# Altium integrated library WE-PD2 (rev22d).IntLib: 115 symbols (part 1 of 3)
Pins are listed as number, name and electrical type; pins without a type are passive.

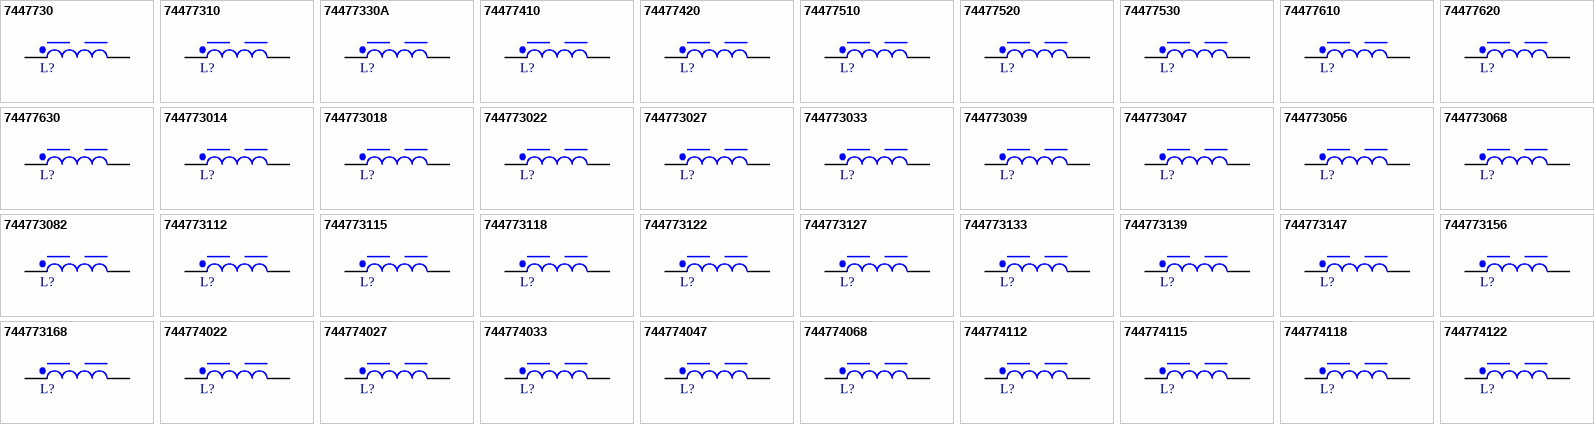
[diagram p0: symbols 7447730 to 744774122]

## 7447730
designator L?, comment 1µH, 4A  (value not drawn)
WE-PD2 SMT Power Inductor, size 4532, 1µH, 4A, 0.049Ω; Manufacturer Part Number: 7447730; Manufacturer: Wurth Elektronik; Case/Size Code: 4532; DC Resistance: 0.014Ω; Saturation Current: 5.72A; Self Resonant Frequency: 110MHz; Category: Unshielded Power Inductors; Match Code: WE-PD2; ComponentLink1Description: Website Link; ComponentLink1URL: https://www.we-online.com/redexpert/article/7447730?ad; ComponentLink2Description: Datasheet Link; ComponentLink2URL: https://www.we-online.com/redexpert/spec/7447730?ad; Mount: Surface Mount; Operating Temperature Max: 125°C; Operating Temperature Min: -40°C; Packaging: Tape and Reel; Length: 4.5mm; Width: 4mm; Height: 3.2mm; DC Resistance Max: 0.049Ω; Inductance: 1µH; Rated Current: 4A
footprint WE-PD2_4532
simulation model 4532_7447730_1u
pins: 1, 2

## 74477310
designator L?, comment 10µH, 1.45A  (value not drawn)
WE-PD2 SMT Power Inductor, size 4532, 10µH, 1.45A, 0.182Ω; Manufacturer Part Number: 74477310; Manufacturer: Wurth Elektronik; Case/Size Code: 4532; DC Resistance: 0.118Ω; Saturation Current: 1.74A; Self Resonant Frequency: 37MHz; Category: Unshielded Power Inductors; Match Code: WE-PD2; ComponentLink1Description: Website Link; ComponentLink1URL: https://www.we-online.com/redexpert/article/74477310?ad; ComponentLink2Description: Datasheet Link; ComponentLink2URL: https://www.we-online.com/redexpert/spec/74477310?ad; Mount: Surface Mount; Operating Temperature Max: 125°C; Operating Temperature Min: -40°C; Packaging: Tape and Reel; Length: 4.5mm; Width: 4mm; Height: 3.2mm; DC Resistance Max: 0.182Ω; Inductance: 10µH; Rated Current: 1.45A
footprint WE-PD2_4532
simulation model 4532_74477310_10u
pins: 1, 2

## 74477330A
designator L?, comment 1000µH, 0.12A  (value not drawn)
WE-PD2 SMT Power Inductor, size 4532, 1000µH, 0.12A, 15Ω; Manufacturer Part Number: 74477330A; Manufacturer: Wurth Elektronik; Case/Size Code: 4532; DC Resistance: 12.5Ω; Saturation Current: 0.18A; Self Resonant Frequency: 3.5MHz; Category: Unshielded Power Inductors; Match Code: WE-PD2; ComponentLink1Description: Website Link; ComponentLink1URL: https://www.we-online.com/redexpert/article/74477330A?ad; ComponentLink2Description: Datasheet Link; ComponentLink2URL: https://www.we-online.com/redexpert/spec/74477330A?ad; Mount: Surface Mount; Operating Temperature Max: 125°C; Operating Temperature Min: -40°C; Packaging: Tape and Reel; Length: 4.5mm; Width: 4mm; Height: 3.2mm; DC Resistance Max: 15Ω; Inductance: 1000µH; Rated Current: 0.12A
footprint WE-PD2_4532
simulation model 4532_74477330A_1000u
pins: 1, 2

## 74477410
designator L?, comment 10µH, 2.2A  (value not drawn)
WE-PD2 SMT Power Inductor, size 5848, 10µH, 2.2A, 0.1Ω; Manufacturer Part Number: 74477410; Manufacturer: Wurth Elektronik; Case/Size Code: 5848; DC Resistance: 0.078Ω; Saturation Current: 2.5A; Self Resonant Frequency: 26MHz; Category: Unshielded Power Inductors; Match Code: WE-PD2; ComponentLink1Description: Website Link; ComponentLink1URL: https://www.we-online.com/redexpert/article/74477410?ad; ComponentLink2Description: Datasheet Link; ComponentLink2URL: https://www.we-online.com/redexpert/spec/74477410?ad; Mount: Surface Mount; Operating Temperature Max: 125°C; Operating Temperature Min: -40°C; Packaging: Tape and Reel; Length: 5.8mm; Width: 5.2mm; Height: 4.5mm; DC Resistance Max: 0.1Ω; Inductance: 10µH; Rated Current: 2.2A
footprint WE-PD2_5848
simulation model 5848_74477410_10u
pins: 1, 2

## 74477420
designator L?, comment 100µH, 0.57A  (value not drawn)
WE-PD2 SMT Power Inductor, size 5848, 100µH, 0.57A, 0.65Ω; Manufacturer Part Number: 74477420; Manufacturer: Wurth Elektronik; Case/Size Code: 5848; DC Resistance: 0.51Ω; Saturation Current: 0.68A; Self Resonant Frequency: 7.5MHz; Category: Unshielded Power Inductors; Match Code: WE-PD2; ComponentLink1Description: Website Link; ComponentLink1URL: https://www.we-online.com/redexpert/article/74477420?ad; ComponentLink2Description: Datasheet Link; ComponentLink2URL: https://www.we-online.com/redexpert/spec/74477420?ad; Mount: Surface Mount; Operating Temperature Max: 125°C; Operating Temperature Min: -40°C; Packaging: Tape and Reel; Length: 5.8mm; Width: 5.2mm; Height: 4.5mm; DC Resistance Max: 0.65Ω; Inductance: 100µH; Rated Current: 0.57A
footprint WE-PD2_5848
simulation model 5848_74477420_100u
pins: 1, 2

## 74477510
designator L?, comment 10µH, 2.3A  (value not drawn)
WE-PD2 SMT Power Inductor, size 7850, 10µH, 2.3A, 0.07Ω; Manufacturer Part Number: 74477510; Manufacturer: Wurth Elektronik; Case/Size Code: 7850; DC Resistance: 0.044Ω; Saturation Current: 2.95A; Self Resonant Frequency: 28MHz; Category: Unshielded Power Inductors; Match Code: WE-PD2; ComponentLink1Description: Website Link; ComponentLink1URL: https://www.we-online.com/redexpert/article/74477510?ad; ComponentLink2Description: Datasheet Link; ComponentLink2URL: https://www.we-online.com/redexpert/spec/74477510?ad; Mount: Surface Mount; Operating Temperature Max: 125°C; Operating Temperature Min: -40°C; Packaging: Tape and Reel; Length: 7.8mm; Width: 7mm; Height: 4.95mm; DC Resistance Max: 0.07Ω; Inductance: 10µH; Rated Current: 2.3A
footprint WE-PD2_7850
simulation model 7850_74477510_10u
pins: 1, 2

## 74477520
designator L?, comment 100µH, 0.77A  (value not drawn)
WE-PD2 SMT Power Inductor, size 7850, 100µH, 0.77A, 0.43Ω; Manufacturer Part Number: 74477520; Manufacturer: Wurth Elektronik; Case/Size Code: 7850; DC Resistance: 0.208Ω; Saturation Current: 0.86A; Self Resonant Frequency: 8MHz; Category: Unshielded Power Inductors; Match Code: WE-PD2; ComponentLink1Description: Website Link; ComponentLink1URL: https://www.we-online.com/redexpert/article/74477520?ad; ComponentLink2Description: Datasheet Link; ComponentLink2URL: https://www.we-online.com/redexpert/spec/74477520?ad; Mount: Surface Mount; Operating Temperature Max: 125°C; Operating Temperature Min: -40°C; Packaging: Tape and Reel; Length: 7.8mm; Width: 7mm; Height: 4.95mm; DC Resistance Max: 0.43Ω; Inductance: 100µH; Rated Current: 0.77A
footprint WE-PD2_7850
simulation model 7850_74477520_100u
pins: 1, 2

## 74477530
designator L?, comment 1000µH, 0.3A  (value not drawn)
WE-PD2 SMT Power Inductor, size 7850, 1000µH, 0.3A, 3.3Ω; Manufacturer Part Number: 74477530; Manufacturer: Wurth Elektronik; Case/Size Code: 7850; DC Resistance: 2.78Ω; Self Resonant Frequency: 2.4MHz; Category: Unshielded Power Inductors; Match Code: WE-PD2; ComponentLink1Description: Website Link; ComponentLink1URL: https://www.we-online.com/redexpert/article/74477530?ad; ComponentLink2Description: Datasheet Link; ComponentLink2URL: https://www.we-online.com/redexpert/spec/74477530?ad; Mount: Surface Mount; Operating Temperature Max: 125°C; Operating Temperature Min: -40°C; Packaging: Tape and Reel; Length: 7.8mm; Width: 7mm; Height: 4.95mm; DC Resistance Max: 3.3Ω; Inductance: 1000µH; Rated Current: 0.3A; Saturation Current: 0.3A
footprint WE-PD2_7850
simulation model 7850_74477530_1m
pins: 1, 2

## 74477610
designator L?, comment 10µH, 2.98A  (value not drawn)
WE-PD2 SMT Power Inductor, size 1054, 10µH, 2.98A, 0.06Ω; Manufacturer Part Number: 74477610; Manufacturer: Wurth Elektronik; Case/Size Code: 1054; DC Resistance: 0.028Ω; Saturation Current: 3.24A; Self Resonant Frequency: 24MHz; Category: Unshielded Power Inductors; Match Code: WE-PD2; ComponentLink1Description: Website Link; ComponentLink1URL: https://www.we-online.com/redexpert/article/74477610?ad; ComponentLink2Description: Datasheet Link; ComponentLink2URL: https://www.we-online.com/redexpert/spec/74477610?ad; Mount: Surface Mount; Operating Temperature Max: 125°C; Operating Temperature Min: -40°C; Packaging: Tape and Reel; Length: 10mm; Width: 9mm; Height: 5.4mm; DC Resistance Max: 0.06Ω; Inductance: 10µH; Rated Current: 2.98A
footprint WE-PD2_1054
simulation model 1054_74477610_10u
pins: 1, 2

## 74477620
designator L?, comment 100µH, 1.02A  (value not drawn)
WE-PD2 SMT Power Inductor, size 1054, 100µH, 1.02A, 0.35Ω; Manufacturer Part Number: 74477620; Manufacturer: Wurth Elektronik; Case/Size Code: 1054; DC Resistance: 0.2Ω; Saturation Current: 1.1A; Self Resonant Frequency: 7.5MHz; Category: Unshielded Power Inductors; Match Code: WE-PD2; ComponentLink1Description: Website Link; ComponentLink1URL: https://www.we-online.com/redexpert/article/74477620?ad; ComponentLink2Description: Datasheet Link; ComponentLink2URL: https://www.we-online.com/redexpert/spec/74477620?ad; Mount: Surface Mount; Operating Temperature Max: 125°C; Operating Temperature Min: -40°C; Packaging: Tape and Reel; Length: 10mm; Width: 9mm; Height: 5.4mm; DC Resistance Max: 0.35Ω; Inductance: 100µH; Rated Current: 1.02A
footprint WE-PD2_1054
simulation model 1054_74477620_100u
pins: 1, 2

## 74477630
designator L?, comment 1000µH, 0.32A  (value not drawn)
WE-PD2 SMT Power Inductor, size 1054, 1000µH, 0.32A, 2.6Ω; Manufacturer Part Number: 74477630; Manufacturer: Wurth Elektronik; Case/Size Code: 1054; DC Resistance: 2.2Ω; Saturation Current: 0.38A; Self Resonant Frequency: 2.3MHz; Category: Unshielded Power Inductors; Match Code: WE-PD2; ComponentLink1Description: Website Link; ComponentLink1URL: https://www.we-online.com/redexpert/article/74477630?ad; ComponentLink2Description: Datasheet Link; ComponentLink2URL: https://www.we-online.com/redexpert/spec/74477630?ad; Mount: Surface Mount; Operating Temperature Max: 125°C; Operating Temperature Min: -40°C; Packaging: Tape and Reel; Length: 10mm; Width: 9mm; Height: 5.4mm; DC Resistance Max: 2.6Ω; Inductance: 1000µH; Rated Current: 0.32A
footprint WE-PD2_1054
simulation model 1054_74477630_1m
pins: 1, 2

## 744773014
designator L?, comment 1.4µH, 3.4A  (value not drawn)
WE-PD2 SMT Power Inductor, size 4532, 1.4µH, 3.4A, 0.056Ω; Manufacturer Part Number: 744773014; Manufacturer: Wurth Elektronik; Case/Size Code: 4532; DC Resistance: 0.022Ω; Saturation Current: 5.04A; Self Resonant Frequency: 103MHz; Category: Unshielded Power Inductors; Match Code: WE-PD2; ComponentLink1Description: Website Link; ComponentLink1URL: https://www.we-online.com/redexpert/article/744773014?ad; ComponentLink2Description: Datasheet Link; ComponentLink2URL: https://www.we-online.com/redexpert/spec/744773014?ad; Mount: Surface Mount; Operating Temperature Max: 125°C; Operating Temperature Min: -40°C; Packaging: Tape and Reel; Length: 4.5mm; Width: 4mm; Height: 3.2mm; DC Resistance Max: 0.056Ω; Inductance: 1.4µH; Rated Current: 3.4A
footprint WE-PD2_4532
simulation model 4532_744773014_1.4u
pins: 1, 2

## 744773018
designator L?, comment 1.8µH, 2.7A  (value not drawn)
WE-PD2 SMT Power Inductor, size 4532, 1.8µH, 2.7A, 0.064Ω; Manufacturer Part Number: 744773018; Manufacturer: Wurth Elektronik; Case/Size Code: 4532; DC Resistance: 0.028Ω; Saturation Current: 3.6A; Self Resonant Frequency: 95MHz; Category: Unshielded Power Inductors; Match Code: WE-PD2; ComponentLink1Description: Website Link; ComponentLink1URL: https://www.we-online.com/redexpert/article/744773018?ad; ComponentLink2Description: Datasheet Link; ComponentLink2URL: https://www.we-online.com/redexpert/spec/744773018?ad; Mount: Surface Mount; Operating Temperature Max: 125°C; Operating Temperature Min: -40°C; Packaging: Tape and Reel; Length: 4.5mm; Width: 4mm; Height: 3.2mm; DC Resistance Max: 0.064Ω; Inductance: 1.8µH; Rated Current: 2.7A
footprint WE-PD2_4532
simulation model 4532_744773018_1.8u
pins: 1, 2

## 744773022
designator L?, comment 2.2µH, 2.5A  (value not drawn)
WE-PD2 SMT Power Inductor, size 4532, 2.2µH, 2.5A, 0.071Ω; Manufacturer Part Number: 744773022; Manufacturer: Wurth Elektronik; Case/Size Code: 4532; DC Resistance: 0.034Ω; Saturation Current: 3.38A; Self Resonant Frequency: 85MHz; Category: Unshielded Power Inductors; Match Code: WE-PD2; ComponentLink1Description: Website Link; ComponentLink1URL: https://www.we-online.com/redexpert/article/744773022?ad; ComponentLink2Description: Datasheet Link; ComponentLink2URL: https://www.we-online.com/redexpert/spec/744773022?ad; Mount: Surface Mount; Operating Temperature Max: 125°C; Operating Temperature Min: -40°C; Packaging: Tape and Reel; Length: 4.5mm; Width: 4mm; Height: 3.2mm; DC Resistance Max: 0.071Ω; Inductance: 2.2µH; Rated Current: 2.5A
footprint WE-PD2_4532
simulation model 4532_744773022_2.2u
pins: 1, 2

## 744773027
designator L?, comment 2.7µH, 2.25A  (value not drawn)
WE-PD2 SMT Power Inductor, size 4532, 2.7µH, 2.25A, 0.079Ω; Manufacturer Part Number: 744773027; Manufacturer: Wurth Elektronik; Case/Size Code: 4532; DC Resistance: 0.039Ω; Saturation Current: 2.97A; Self Resonant Frequency: 72MHz; Category: Unshielded Power Inductors; Match Code: WE-PD2; ComponentLink1Description: Website Link; ComponentLink1URL: https://www.we-online.com/redexpert/article/744773027?ad; ComponentLink2Description: Datasheet Link; ComponentLink2URL: https://www.we-online.com/redexpert/spec/744773027?ad; Mount: Surface Mount; Operating Temperature Max: 125°C; Operating Temperature Min: -40°C; Packaging: Tape and Reel; Length: 4.5mm; Width: 4mm; Height: 3.2mm; DC Resistance Max: 0.079Ω; Inductance: 2.7µH; Rated Current: 2.25A
footprint WE-PD2_4532
simulation model 4532_744773027_2.7u
pins: 1, 2

## 744773033
designator L?, comment 3.3µH, 2A  (value not drawn)
WE-PD2 SMT Power Inductor, size 4532, 3.3µH, 2A, 0.086Ω; Manufacturer Part Number: 744773033; Manufacturer: Wurth Elektronik; Case/Size Code: 4532; DC Resistance: 0.041Ω; Saturation Current: 2.88A; Self Resonant Frequency: 65MHz; Category: Unshielded Power Inductors; Match Code: WE-PD2; ComponentLink1Description: Website Link; ComponentLink1URL: https://www.we-online.com/redexpert/article/744773033?ad; ComponentLink2Description: Datasheet Link; ComponentLink2URL: https://www.we-online.com/redexpert/spec/744773033?ad; Mount: Surface Mount; Operating Temperature Max: 125°C; Operating Temperature Min: -40°C; Packaging: Tape and Reel; Length: 4.5mm; Width: 4mm; Height: 3.2mm; DC Resistance Max: 0.086Ω; Inductance: 3.3µH; Rated Current: 2A
footprint WE-PD2_4532
simulation model 4532_744773033_3.3u
pins: 1, 2

## 744773039
designator L?, comment 3.9µH, 1.88A  (value not drawn)
WE-PD2 SMT Power Inductor, size 4532, 3.9µH, 1.88A, 0.094Ω; Manufacturer Part Number: 744773039; Manufacturer: Wurth Elektronik; Case/Size Code: 4532; DC Resistance: 0.054Ω; Saturation Current: 2.57A; Self Resonant Frequency: 61MHz; Category: Unshielded Power Inductors; Match Code: WE-PD2; ComponentLink1Description: Website Link; ComponentLink1URL: https://www.we-online.com/redexpert/article/744773039?ad; ComponentLink2Description: Datasheet Link; ComponentLink2URL: https://www.we-online.com/redexpert/spec/744773039?ad; Mount: Surface Mount; Operating Temperature Max: 125°C; Operating Temperature Min: -40°C; Packaging: Tape and Reel; Length: 4.5mm; Width: 4mm; Height: 3.2mm; DC Resistance Max: 0.094Ω; Inductance: 3.9µH; Rated Current: 1.88A
footprint WE-PD2_4532
simulation model 4532_744773039_3.9u
pins: 1, 2

## 744773047
designator L?, comment 4.7µH, 1.82A  (value not drawn)
WE-PD2 SMT Power Inductor, size 4532, 4.7µH, 1.82A, 0.11Ω; Manufacturer Part Number: 744773047; Manufacturer: Wurth Elektronik; Case/Size Code: 4532; DC Resistance: 0.059Ω; Saturation Current: 2.46A; Self Resonant Frequency: 50MHz; Category: Unshielded Power Inductors; Match Code: WE-PD2; ComponentLink1Description: Website Link; ComponentLink1URL: https://www.we-online.com/redexpert/article/744773047?ad; ComponentLink2Description: Datasheet Link; ComponentLink2URL: https://www.we-online.com/redexpert/spec/744773047?ad; Mount: Surface Mount; Operating Temperature Max: 125°C; Operating Temperature Min: -40°C; Packaging: Tape and Reel; Length: 4.5mm; Width: 4mm; Height: 3.2mm; DC Resistance Max: 0.11Ω; Inductance: 4.7µH; Rated Current: 1.82A
footprint WE-PD2_4532
simulation model 4532_744773047_4.7u
pins: 1, 2

## 744773056
designator L?, comment 5.6µH, 1.58A  (value not drawn)
WE-PD2 SMT Power Inductor, size 4532, 5.6µH, 1.58A, 0.126Ω; Manufacturer Part Number: 744773056; Manufacturer: Wurth Elektronik; Case/Size Code: 4532; DC Resistance: 0.069Ω; Saturation Current: 2.43A; Self Resonant Frequency: 48MHz; Category: Unshielded Power Inductors; Match Code: WE-PD2; ComponentLink1Description: Website Link; ComponentLink1URL: https://www.we-online.com/redexpert/article/744773056?ad; ComponentLink2Description: Datasheet Link; ComponentLink2URL: https://www.we-online.com/redexpert/spec/744773056?ad; Mount: Surface Mount; Operating Temperature Max: 125°C; Operating Temperature Min: -40°C; Packaging: Tape and Reel; Length: 4.5mm; Width: 4mm; Height: 3.2mm; DC Resistance Max: 0.126Ω; Inductance: 5.6µH; Rated Current: 1.58A
footprint WE-PD2_4532
simulation model 4532_744773056_5.6u
pins: 1, 2

## 744773068
designator L?, comment 6.8µH, 1.54A  (value not drawn)
WE-PD2 SMT Power Inductor, size 4532, 6.8µH, 1.54A, 0.131Ω; Manufacturer Part Number: 744773068; Manufacturer: Wurth Elektronik; Case/Size Code: 4532; DC Resistance: 0.076Ω; Saturation Current: 2.1A; Self Resonant Frequency: 41MHz; Category: Unshielded Power Inductors; Match Code: WE-PD2; ComponentLink1Description: Website Link; ComponentLink1URL: https://www.we-online.com/redexpert/article/744773068?ad; ComponentLink2Description: Datasheet Link; ComponentLink2URL: https://www.we-online.com/redexpert/spec/744773068?ad; Mount: Surface Mount; Operating Temperature Max: 125°C; Operating Temperature Min: -40°C; Packaging: Tape and Reel; Length: 4.5mm; Width: 4mm; Height: 3.2mm; DC Resistance Max: 0.131Ω; Inductance: 6.8µH; Rated Current: 1.54A
footprint WE-PD2_4532
simulation model 4532_744773068_6.8u
pins: 1, 2

## 744773082
designator L?, comment 8.2µH, 1.5A  (value not drawn)
WE-PD2 SMT Power Inductor, size 4532, 8.2µH, 1.5A, 0.146Ω; Manufacturer Part Number: 744773082; Manufacturer: Wurth Elektronik; Case/Size Code: 4532; DC Resistance: 0.116Ω; Saturation Current: 1.8A; Self Resonant Frequency: 38MHz; Category: Unshielded Power Inductors; Match Code: WE-PD2; ComponentLink1Description: Website Link; ComponentLink1URL: https://www.we-online.com/redexpert/article/744773082?ad; ComponentLink2Description: Datasheet Link; ComponentLink2URL: https://www.we-online.com/redexpert/spec/744773082?ad; Mount: Surface Mount; Operating Temperature Max: 125°C; Operating Temperature Min: -40°C; Packaging: Tape and Reel; Length: 4.5mm; Width: 4mm; Height: 3.2mm; DC Resistance Max: 0.146Ω; Inductance: 8.2µH; Rated Current: 1.5A
footprint WE-PD2_4532
simulation model 4532_744773082_8.2u
pins: 1, 2

## 744773112
designator L?, comment 12µH, 1.28A  (value not drawn)
WE-PD2 SMT Power Inductor, size 4532, 12µH, 1.28A, 0.21Ω; Manufacturer Part Number: 744773112; Manufacturer: Wurth Elektronik; Case/Size Code: 4532; DC Resistance: 0.156Ω; Saturation Current: 1.62A; Self Resonant Frequency: 32MHz; Category: Unshielded Power Inductors; Match Code: WE-PD2; ComponentLink1Description: Website Link; ComponentLink1URL: https://www.we-online.com/redexpert/article/744773112?ad; ComponentLink2Description: Datasheet Link; ComponentLink2URL: https://www.we-online.com/redexpert/spec/744773112?ad; Mount: Surface Mount; Operating Temperature Max: 125°C; Operating Temperature Min: -40°C; Packaging: Tape and Reel; Length: 4.5mm; Width: 4mm; Height: 3.2mm; DC Resistance Max: 0.21Ω; Inductance: 12µH; Rated Current: 1.28A
footprint WE-PD2_4532
simulation model 4532_744773112_12u
pins: 1, 2

## 744773115
designator L?, comment 15µH, 1.2A  (value not drawn)
WE-PD2 SMT Power Inductor, size 4532, 15µH, 1.2A, 0.235Ω; Manufacturer Part Number: 744773115; Manufacturer: Wurth Elektronik; Case/Size Code: 4532; DC Resistance: 0.204Ω; Saturation Current: 1.46A; Self Resonant Frequency: 26MHz; Category: Unshielded Power Inductors; Match Code: WE-PD2; ComponentLink1Description: Website Link; ComponentLink1URL: https://www.we-online.com/redexpert/article/744773115?ad; ComponentLink2Description: Datasheet Link; ComponentLink2URL: https://www.we-online.com/redexpert/spec/744773115?ad; Mount: Surface Mount; Operating Temperature Max: 125°C; Operating Temperature Min: -40°C; Packaging: Tape and Reel; Length: 4.5mm; Width: 4mm; Height: 3.2mm; DC Resistance Max: 0.235Ω; Inductance: 15µH; Rated Current: 1.2A
footprint WE-PD2_4532
simulation model 4532_744773115_15u
pins: 1, 2

## 744773118
designator L?, comment 18µH, 1.1A  (value not drawn)
WE-PD2 SMT Power Inductor, size 4532, 18µH, 1.1A, 0.338Ω; Manufacturer Part Number: 744773118; Manufacturer: Wurth Elektronik; Case/Size Code: 4532; DC Resistance: 0.225Ω; Saturation Current: 1.29A; Self Resonant Frequency: 23MHz; Category: Unshielded Power Inductors; Match Code: WE-PD2; ComponentLink1Description: Website Link; ComponentLink1URL: https://www.we-online.com/redexpert/article/744773118?ad; ComponentLink2Description: Datasheet Link; ComponentLink2URL: https://www.we-online.com/redexpert/spec/744773118?ad; Mount: Surface Mount; Operating Temperature Max: 125°C; Operating Temperature Min: -40°C; Packaging: Tape and Reel; Length: 4.5mm; Width: 4mm; Height: 3.2mm; DC Resistance Max: 0.338Ω; Inductance: 18µH; Rated Current: 1.1A
footprint WE-PD2_4532
simulation model 4532_744773118_18u
pins: 1, 2

## 744773122
designator L?, comment 22µH, 1A  (value not drawn)
WE-PD2 SMT Power Inductor, size 4532, 22µH, 1A, 0.37Ω; Manufacturer Part Number: 744773122; Manufacturer: Wurth Elektronik; Case/Size Code: 4532; DC Resistance: 0.261Ω; Saturation Current: 1.22A; Self Resonant Frequency: 20MHz; Category: Unshielded Power Inductors; Match Code: WE-PD2; ComponentLink1Description: Website Link; ComponentLink1URL: https://www.we-online.com/redexpert/article/744773122?ad; ComponentLink2Description: Datasheet Link; ComponentLink2URL: https://www.we-online.com/redexpert/spec/744773122?ad; Mount: Surface Mount; Operating Temperature Max: 125°C; Operating Temperature Min: -40°C; Packaging: Tape and Reel; Length: 4.5mm; Width: 4mm; Height: 3.2mm; DC Resistance Max: 0.37Ω; Inductance: 22µH; Rated Current: 1A
footprint WE-PD2_4532
simulation model 4532_744773122_22u
pins: 1, 2

## 744773127
designator L?, comment 27µH, 0.94A  (value not drawn)
WE-PD2 SMT Power Inductor, size 4532, 27µH, 0.94A, 0.522Ω; Manufacturer Part Number: 744773127; Manufacturer: Wurth Elektronik; Case/Size Code: 4532; DC Resistance: 0.328Ω; Saturation Current: 1A; Self Resonant Frequency: 21MHz; Category: Unshielded Power Inductors; Match Code: WE-PD2; ComponentLink1Description: Website Link; ComponentLink1URL: https://www.we-online.com/redexpert/article/744773127?ad; ComponentLink2Description: Datasheet Link; ComponentLink2URL: https://www.we-online.com/redexpert/spec/744773127?ad; Mount: Surface Mount; Operating Temperature Max: 125°C; Operating Temperature Min: -40°C; Packaging: Tape and Reel; Length: 4.5mm; Width: 4mm; Height: 3.2mm; DC Resistance Max: 0.522Ω; Inductance: 27µH; Rated Current: 0.94A
footprint WE-PD2_4532
simulation model 4532_744773127_27u
pins: 1, 2

## 744773133
designator L?, comment 33µH, 0.86A  (value not drawn)
WE-PD2 SMT Power Inductor, size 4532, 33µH, 0.86A, 0.54Ω; Manufacturer Part Number: 744773133; Manufacturer: Wurth Elektronik; Case/Size Code: 4532; DC Resistance: 0.37Ω; Saturation Current: 0.9A; Self Resonant Frequency: 20MHz; Category: Unshielded Power Inductors; Match Code: WE-PD2; ComponentLink1Description: Website Link; ComponentLink1URL: https://www.we-online.com/redexpert/article/744773133?ad; ComponentLink2Description: Datasheet Link; ComponentLink2URL: https://www.we-online.com/redexpert/spec/744773133?ad; Mount: Surface Mount; Operating Temperature Max: 125°C; Operating Temperature Min: -40°C; Packaging: Tape and Reel; Length: 4.5mm; Width: 4mm; Height: 3.2mm; DC Resistance Max: 0.54Ω; Inductance: 33µH; Rated Current: 0.86A
footprint WE-PD2_4532
simulation model 4532_744773133_33u
pins: 1, 2

## 744773139
designator L?, comment 39µH, 0.77A  (value not drawn)
WE-PD2 SMT Power Inductor, size 4532, 39µH, 0.77A, 0.587Ω; Manufacturer Part Number: 744773139; Manufacturer: Wurth Elektronik; Case/Size Code: 4532; DC Resistance: 0.418Ω; Saturation Current: 0.87A; Self Resonant Frequency: 15MHz; Category: Unshielded Power Inductors; Match Code: WE-PD2; ComponentLink1Description: Website Link; ComponentLink1URL: https://www.we-online.com/redexpert/article/744773139?ad; ComponentLink2Description: Datasheet Link; ComponentLink2URL: https://www.we-online.com/redexpert/spec/744773139?ad; Mount: Surface Mount; Operating Temperature Max: 125°C; Operating Temperature Min: -40°C; Packaging: Tape and Reel; Length: 4.5mm; Width: 4mm; Height: 3.2mm; DC Resistance Max: 0.587Ω; Inductance: 39µH; Rated Current: 0.77A
footprint WE-PD2_4532
simulation model 4532_744773139_39u
pins: 1, 2

## 744773147
designator L?, comment 47µH, 0.68A  (value not drawn)
WE-PD2 SMT Power Inductor, size 4532, 47µH, 0.68A, 0.844Ω; Manufacturer Part Number: 744773147; Manufacturer: Wurth Elektronik; Case/Size Code: 4532; DC Resistance: 0.523Ω; Saturation Current: 0.77A; Self Resonant Frequency: 17MHz; Category: Unshielded Power Inductors; Match Code: WE-PD2; ComponentLink1Description: Website Link; ComponentLink1URL: https://www.we-online.com/redexpert/article/744773147?ad; ComponentLink2Description: Datasheet Link; ComponentLink2URL: https://www.we-online.com/redexpert/spec/744773147?ad; Mount: Surface Mount; Operating Temperature Max: 125°C; Operating Temperature Min: -40°C; Packaging: Tape and Reel; Length: 4.5mm; Width: 4mm; Height: 3.2mm; DC Resistance Max: 0.844Ω; Inductance: 47µH; Rated Current: 0.68A
footprint WE-PD2_4532
simulation model 4532_744773147_47u
pins: 1, 2

## 744773156
designator L?, comment 56µH, 0.64A  (value not drawn)
WE-PD2 SMT Power Inductor, size 4532, 56µH, 0.64A, 0.937Ω; Manufacturer Part Number: 744773156; Manufacturer: Wurth Elektronik; Case/Size Code: 4532; DC Resistance: 0.714Ω; Saturation Current: 0.75A; Self Resonant Frequency: 16MHz; Category: Unshielded Power Inductors; Match Code: WE-PD2; ComponentLink1Description: Website Link; ComponentLink1URL: https://www.we-online.com/redexpert/article/744773156?ad; ComponentLink2Description: Datasheet Link; ComponentLink2URL: https://www.we-online.com/redexpert/spec/744773156?ad; Mount: Surface Mount; Operating Temperature Max: 125°C; Operating Temperature Min: -40°C; Packaging: Tape and Reel; Length: 4.5mm; Width: 4mm; Height: 3.2mm; DC Resistance Max: 0.937Ω; Inductance: 56µH; Rated Current: 0.64A
footprint WE-PD2_4532
simulation model 4532_744773156_56u
pins: 1, 2

## 744773168
designator L?, comment 68µH, 0.56A  (value not drawn)
WE-PD2 SMT Power Inductor, size 4532, 68µH, 0.56A, 1.117Ω; Manufacturer Part Number: 744773168; Manufacturer: Wurth Elektronik; Case/Size Code: 4532; DC Resistance: 0.754Ω; Saturation Current: 0.68A; Self Resonant Frequency: 13MHz; Category: Unshielded Power Inductors; Match Code: WE-PD2; ComponentLink1Description: Website Link; ComponentLink1URL: https://www.we-online.com/redexpert/article/744773168?ad; ComponentLink2Description: Datasheet Link; ComponentLink2URL: https://www.we-online.com/redexpert/spec/744773168?ad; Mount: Surface Mount; Operating Temperature Max: 125°C; Operating Temperature Min: -40°C; Packaging: Tape and Reel; Length: 4.5mm; Width: 4mm; Height: 3.2mm; DC Resistance Max: 1.117Ω; Inductance: 68µH; Rated Current: 0.56A
footprint WE-PD2_4532
simulation model 4532_744773168_68u
pins: 1, 2

## 744774022
designator L?, comment 2.2µH, 4.6A  (value not drawn)
WE-PD2 SMT Power Inductor, size 5848, 2.2µH, 4.6A, 0.041Ω; Manufacturer Part Number: 744774022; Manufacturer: Wurth Elektronik; Case/Size Code: 5848; DC Resistance: 0.026Ω; Saturation Current: 8.2A; Self Resonant Frequency: 54MHz; Category: Unshielded Power Inductors; Match Code: WE-PD2; ComponentLink1Description: Website Link; ComponentLink1URL: https://www.we-online.com/redexpert/article/744774022?ad; ComponentLink2Description: Datasheet Link; ComponentLink2URL: https://www.we-online.com/redexpert/spec/744774022?ad; Mount: Surface Mount; Operating Temperature Max: 125°C; Operating Temperature Min: -40°C; Packaging: Tape and Reel; Length: 5.8mm; Width: 5.2mm; Height: 4.5mm; DC Resistance Max: 0.041Ω; Inductance: 2.2µH; Rated Current: 4.6A
footprint WE-PD2_5848
simulation model 5848_744774022_2.2u
pins: 1, 2

## 744774027
designator L?, comment 2.7µH, 4A  (value not drawn)
WE-PD2 SMT Power Inductor, size 5848, 2.7µH, 4A, 0.045Ω; Manufacturer Part Number: 744774027; Manufacturer: Wurth Elektronik; Case/Size Code: 5848; DC Resistance: 0.032Ω; Saturation Current: 8A; Self Resonant Frequency: 50MHz; Category: Unshielded Power Inductors; Match Code: WE-PD2; ComponentLink1Description: Website Link; ComponentLink1URL: https://www.we-online.com/redexpert/article/744774027?ad; ComponentLink2Description: Datasheet Link; ComponentLink2URL: https://www.we-online.com/redexpert/spec/744774027?ad; Mount: Surface Mount; Operating Temperature Max: 125°C; Operating Temperature Min: -40°C; Packaging: Tape and Reel; Length: 5.8mm; Width: 5.2mm; Height: 4.5mm; DC Resistance Max: 0.045Ω; Inductance: 2.7µH; Rated Current: 4A
footprint WE-PD2_5848
simulation model 5848_744774027_2.7u
pins: 1, 2

## 744774033
designator L?, comment 3.3µH, 4A  (value not drawn)
WE-PD2 SMT Power Inductor, size 5848, 3.3µH, 4A, 0.06Ω; Manufacturer Part Number: 744774033; Manufacturer: Wurth Elektronik; Case/Size Code: 5848; DC Resistance: 0.042Ω; Saturation Current: 7.5A; Self Resonant Frequency: 43MHz; Category: Unshielded Power Inductors; Match Code: WE-PD2; ComponentLink1Description: Website Link; ComponentLink1URL: https://www.we-online.com/redexpert/article/744774033?ad; ComponentLink2Description: Datasheet Link; ComponentLink2URL: https://www.we-online.com/redexpert/spec/744774033?ad; Mount: Surface Mount; Operating Temperature Max: 125°C; Operating Temperature Min: -40°C; Packaging: Tape and Reel; Length: 5.8mm; Width: 5.2mm; Height: 4.5mm; DC Resistance Max: 0.06Ω; Inductance: 3.3µH; Rated Current: 4A
footprint WE-PD2_5848
simulation model 5848_744774033_3.3u
pins: 1, 2

## 744774047
designator L?, comment 4.7µH, 3A  (value not drawn)
WE-PD2 SMT Power Inductor, size 5848, 4.7µH, 3A, 0.071Ω; Manufacturer Part Number: 744774047; Manufacturer: Wurth Elektronik; Case/Size Code: 5848; DC Resistance: 0.056Ω; Saturation Current: 5.5A; Self Resonant Frequency: 33MHz; Category: Unshielded Power Inductors; Match Code: WE-PD2; ComponentLink1Description: Website Link; ComponentLink1URL: https://www.we-online.com/redexpert/article/744774047?ad; ComponentLink2Description: Datasheet Link; ComponentLink2URL: https://www.we-online.com/redexpert/spec/744774047?ad; Mount: Surface Mount; Operating Temperature Max: 125°C; Operating Temperature Min: -40°C; Packaging: Tape and Reel; Length: 5.8mm; Width: 5.2mm; Height: 4.5mm; DC Resistance Max: 0.071Ω; Inductance: 4.7µH; Rated Current: 3A
footprint WE-PD2_5848
simulation model 5848_744774047_4.7u
pins: 1, 2

## 744774068
designator L?, comment 6.8µH, 2.4A  (value not drawn)
WE-PD2 SMT Power Inductor, size 5848, 6.8µH, 2.4A, 0.082Ω; Manufacturer Part Number: 744774068; Manufacturer: Wurth Elektronik; Case/Size Code: 5848; DC Resistance: 0.071Ω; Saturation Current: 5A; Self Resonant Frequency: 28MHz; Category: Unshielded Power Inductors; Match Code: WE-PD2; ComponentLink1Description: Website Link; ComponentLink1URL: https://www.we-online.com/redexpert/article/744774068?ad; ComponentLink2Description: Datasheet Link; ComponentLink2URL: https://www.we-online.com/redexpert/spec/744774068?ad; Mount: Surface Mount; Operating Temperature Max: 125°C; Operating Temperature Min: -40°C; Packaging: Tape and Reel; Length: 5.8mm; Width: 5.2mm; Height: 4.5mm; DC Resistance Max: 0.082Ω; Inductance: 6.8µH; Rated Current: 2.4A
footprint WE-PD2_5848
simulation model 5848_744774068_6.8u
pins: 1, 2

## 744774112
designator L?, comment 12µH, 2A  (value not drawn)
WE-PD2 SMT Power Inductor, size 5848, 12µH, 2A, 0.11Ω; Manufacturer Part Number: 744774112; Manufacturer: Wurth Elektronik; Case/Size Code: 5848; DC Resistance: 0.082Ω; Saturation Current: 1.94A; Self Resonant Frequency: 24MHz; Category: Unshielded Power Inductors; Match Code: WE-PD2; ComponentLink1Description: Website Link; ComponentLink1URL: https://www.we-online.com/redexpert/article/744774112?ad; ComponentLink2Description: Datasheet Link; ComponentLink2URL: https://www.we-online.com/redexpert/spec/744774112?ad; Mount: Surface Mount; Operating Temperature Max: 125°C; Operating Temperature Min: -40°C; Packaging: Tape and Reel; Length: 5.8mm; Width: 5.2mm; Height: 4.5mm; DC Resistance Max: 0.11Ω; Inductance: 12µH; Rated Current: 2A
footprint WE-PD2_5848
simulation model 5848_744774112_12u
pins: 1, 2

## 744774115
designator L?, comment 15µH, 1.53A  (value not drawn)
WE-PD2 SMT Power Inductor, size 5848, 15µH, 1.53A, 0.14Ω; Manufacturer Part Number: 744774115; Manufacturer: Wurth Elektronik; Case/Size Code: 5848; DC Resistance: 0.089Ω; Saturation Current: 1.9A; Self Resonant Frequency: 23MHz; Category: Unshielded Power Inductors; Match Code: WE-PD2; ComponentLink1Description: Website Link; ComponentLink1URL: https://www.we-online.com/redexpert/article/744774115?ad; ComponentLink2Description: Datasheet Link; ComponentLink2URL: https://www.we-online.com/redexpert/spec/744774115?ad; Mount: Surface Mount; Operating Temperature Max: 125°C; Operating Temperature Min: -40°C; Packaging: Tape and Reel; Length: 5.8mm; Width: 5.2mm; Height: 4.5mm; DC Resistance Max: 0.14Ω; Inductance: 15µH; Rated Current: 1.53A
footprint WE-PD2_5848
simulation model 5848_744774115_15u
pins: 1, 2

## 744774118
designator L?, comment 18µH, 1.45A  (value not drawn)
WE-PD2 SMT Power Inductor, size 5848, 18µH, 1.45A, 0.15Ω; Manufacturer Part Number: 744774118; Manufacturer: Wurth Elektronik; Case/Size Code: 5848; DC Resistance: 0.104Ω; Saturation Current: 1.69A; Self Resonant Frequency: 21MHz; Category: Unshielded Power Inductors; Match Code: WE-PD2; ComponentLink1Description: Website Link; ComponentLink1URL: https://www.we-online.com/redexpert/article/744774118?ad; ComponentLink2Description: Datasheet Link; ComponentLink2URL: https://www.we-online.com/redexpert/spec/744774118?ad; Mount: Surface Mount; Operating Temperature Max: 125°C; Operating Temperature Min: -40°C; Packaging: Tape and Reel; Length: 5.8mm; Width: 5.2mm; Height: 4.5mm; DC Resistance Max: 0.15Ω; Inductance: 18µH; Rated Current: 1.45A
footprint WE-PD2_5848
simulation model 5848_744774118_18u
pins: 1, 2

## 744774122
designator L?, comment 22µH, 1.28A  (value not drawn)
WE-PD2 SMT Power Inductor, size 5848, 22µH, 1.28A, 0.18Ω; Manufacturer Part Number: 744774122; Manufacturer: Wurth Elektronik; Case/Size Code: 5848; DC Resistance: 0.109Ω; Saturation Current: 1.53A; Self Resonant Frequency: 16MHz; Category: Unshielded Power Inductors; Match Code: WE-PD2; ComponentLink1Description: Website Link; ComponentLink1URL: https://www.we-online.com/redexpert/article/744774122?ad; ComponentLink2Description: Datasheet Link; ComponentLink2URL: https://www.we-online.com/redexpert/spec/744774122?ad; Mount: Surface Mount; Operating Temperature Max: 125°C; Operating Temperature Min: -40°C; Packaging: Tape and Reel; Length: 5.8mm; Width: 5.2mm; Height: 4.5mm; DC Resistance Max: 0.18Ω; Inductance: 22µH; Rated Current: 1.28A
footprint WE-PD2_5848
simulation model 5848_744774122_22u
pins: 1, 2

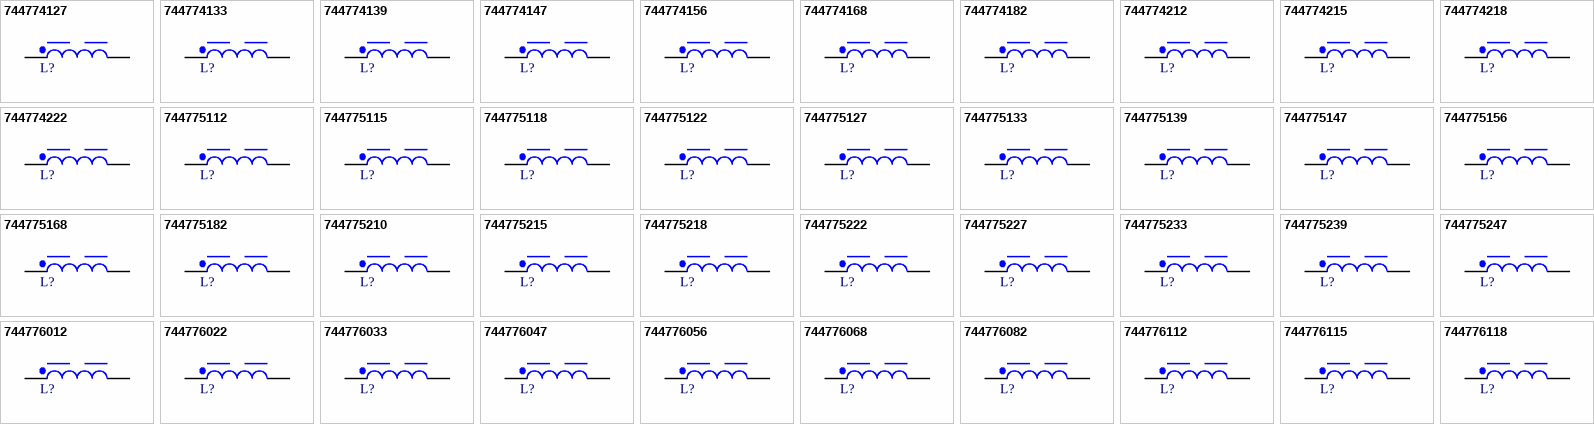
[diagram p1: symbols 744774127 to 744776118]

## 744774127
designator L?, comment 27µH, 1.19A  (value not drawn)
WE-PD2 SMT Power Inductor, size 5848, 27µH, 1.19A, 0.2Ω; Manufacturer Part Number: 744774127; Manufacturer: Wurth Elektronik; Case/Size Code: 5848; DC Resistance: 0.133Ω; Saturation Current: 1.4A; Self Resonant Frequency: 15MHz; Category: Unshielded Power Inductors; Match Code: WE-PD2; ComponentLink1Description: Website Link; ComponentLink1URL: https://www.we-online.com/redexpert/article/744774127?ad; ComponentLink2Description: Datasheet Link; ComponentLink2URL: https://www.we-online.com/redexpert/spec/744774127?ad; Mount: Surface Mount; Operating Temperature Max: 125°C; Operating Temperature Min: -40°C; Packaging: Tape and Reel; Length: 5.8mm; Width: 5.2mm; Height: 4.5mm; DC Resistance Max: 0.2Ω; Inductance: 27µH; Rated Current: 1.19A
footprint WE-PD2_5848
simulation model 5848_744774127_27u
pins: 1, 2

## 744774133
designator L?, comment 33µH, 1.09A  (value not drawn)
WE-PD2 SMT Power Inductor, size 5848, 33µH, 1.09A, 0.23Ω; Manufacturer Part Number: 744774133; Manufacturer: Wurth Elektronik; Case/Size Code: 5848; DC Resistance: 0.15Ω; Saturation Current: 1.17A; Self Resonant Frequency: 14MHz; Category: Unshielded Power Inductors; Match Code: WE-PD2; ComponentLink1Description: Website Link; ComponentLink1URL: https://www.we-online.com/redexpert/article/744774133?ad; ComponentLink2Description: Datasheet Link; ComponentLink2URL: https://www.we-online.com/redexpert/spec/744774133?ad; Mount: Surface Mount; Operating Temperature Max: 125°C; Operating Temperature Min: -40°C; Packaging: Tape and Reel; Length: 5.8mm; Width: 5.2mm; Height: 4.5mm; DC Resistance Max: 0.23Ω; Inductance: 33µH; Rated Current: 1.09A
footprint WE-PD2_5848
simulation model 5848_744774133_33u
pins: 1, 2

## 744774139
designator L?, comment 39µH, 0.94A  (value not drawn)
WE-PD2 SMT Power Inductor, size 5848, 39µH, 0.94A, 0.32Ω; Manufacturer Part Number: 744774139; Manufacturer: Wurth Elektronik; Case/Size Code: 5848; DC Resistance: 0.215Ω; Saturation Current: 1.1A; Self Resonant Frequency: 12MHz; Category: Unshielded Power Inductors; Match Code: WE-PD2; ComponentLink1Description: Website Link; ComponentLink1URL: https://www.we-online.com/redexpert/article/744774139?ad; ComponentLink2Description: Datasheet Link; ComponentLink2URL: https://www.we-online.com/redexpert/spec/744774139?ad; Mount: Surface Mount; Operating Temperature Max: 125°C; Operating Temperature Min: -40°C; Packaging: Tape and Reel; Length: 5.8mm; Width: 5.2mm; Height: 4.5mm; DC Resistance Max: 0.32Ω; Inductance: 39µH; Rated Current: 0.94A
footprint WE-PD2_5848
simulation model 5848_744774139_39u
pins: 1, 2

## 744774147
designator L?, comment 47µH, 0.86A  (value not drawn)
WE-PD2 SMT Power Inductor, size 5848, 47µH, 0.86A, 0.37Ω; Manufacturer Part Number: 744774147; Manufacturer: Wurth Elektronik; Case/Size Code: 5848; DC Resistance: 0.26Ω; Saturation Current: 1A; Self Resonant Frequency: 11.5MHz; Category: Unshielded Power Inductors; Match Code: WE-PD2; ComponentLink1Description: Website Link; ComponentLink1URL: https://www.we-online.com/redexpert/article/744774147?ad; ComponentLink2Description: Datasheet Link; ComponentLink2URL: https://www.we-online.com/redexpert/spec/744774147?ad; Mount: Surface Mount; Operating Temperature Max: 125°C; Operating Temperature Min: -40°C; Packaging: Tape and Reel; Length: 5.8mm; Width: 5.2mm; Height: 4.5mm; DC Resistance Max: 0.37Ω; Inductance: 47µH; Rated Current: 0.86A
footprint WE-PD2_5848
simulation model 5848_744774147_47u
pins: 1, 2

## 744774156
designator L?, comment 56µH, 0.77A  (value not drawn)
WE-PD2 SMT Power Inductor, size 5848, 56µH, 0.77A, 0.42Ω; Manufacturer Part Number: 744774156; Manufacturer: Wurth Elektronik; Case/Size Code: 5848; DC Resistance: 0.298Ω; Saturation Current: 0.9A; Self Resonant Frequency: 10MHz; Category: Unshielded Power Inductors; Match Code: WE-PD2; ComponentLink1Description: Website Link; ComponentLink1URL: https://www.we-online.com/redexpert/article/744774156?ad; ComponentLink2Description: Datasheet Link; ComponentLink2URL: https://www.we-online.com/redexpert/spec/744774156?ad; Mount: Surface Mount; Operating Temperature Max: 125°C; Operating Temperature Min: -40°C; Packaging: Tape and Reel; Length: 5.8mm; Width: 5.2mm; Height: 4.5mm; DC Resistance Max: 0.42Ω; Inductance: 56µH; Rated Current: 0.77A
footprint WE-PD2_5848
simulation model 5848_744774156_56u
pins: 1, 2

## 744774168
designator L?, comment 68µH, 0.64A  (value not drawn)
WE-PD2 SMT Power Inductor, size 5848, 68µH, 0.64A, 0.46Ω; Manufacturer Part Number: 744774168; Manufacturer: Wurth Elektronik; Case/Size Code: 5848; DC Resistance: 0.313Ω; Saturation Current: 0.86A; Self Resonant Frequency: 10MHz; Category: Unshielded Power Inductors; Match Code: WE-PD2; ComponentLink1Description: Website Link; ComponentLink1URL: https://www.we-online.com/redexpert/article/744774168?ad; ComponentLink2Description: Datasheet Link; ComponentLink2URL: https://www.we-online.com/redexpert/spec/744774168?ad; Mount: Surface Mount; Operating Temperature Max: 125°C; Operating Temperature Min: -40°C; Packaging: Tape and Reel; Length: 5.8mm; Width: 5.2mm; Height: 4.5mm; DC Resistance Max: 0.46Ω; Inductance: 68µH; Rated Current: 0.64A
footprint WE-PD2_5848
simulation model 5848_744774168_68u
pins: 1, 2

## 744774182
designator L?, comment 82µH, 0.6A  (value not drawn)
WE-PD2 SMT Power Inductor, size 5848, 82µH, 0.6A, 0.6Ω; Manufacturer Part Number: 744774182; Manufacturer: Wurth Elektronik; Case/Size Code: 5848; DC Resistance: 0.475Ω; Saturation Current: 0.72A; Self Resonant Frequency: 8MHz; Category: Unshielded Power Inductors; Match Code: WE-PD2; ComponentLink1Description: Website Link; ComponentLink1URL: https://www.we-online.com/redexpert/article/744774182?ad; ComponentLink2Description: Datasheet Link; ComponentLink2URL: https://www.we-online.com/redexpert/spec/744774182?ad; Mount: Surface Mount; Operating Temperature Max: 125°C; Operating Temperature Min: -40°C; Packaging: Tape and Reel; Length: 5.8mm; Width: 5.2mm; Height: 4.5mm; DC Resistance Max: 0.6Ω; Inductance: 82µH; Rated Current: 0.6A
footprint WE-PD2_5848
simulation model 5848_744774182_82u
pins: 1, 2

## 744774212
designator L?, comment 120µH, 0.49A  (value not drawn)
WE-PD2 SMT Power Inductor, size 5848, 120µH, 0.49A, 0.93Ω; Manufacturer Part Number: 744774212; Manufacturer: Wurth Elektronik; Case/Size Code: 5848; DC Resistance: 0.66Ω; Saturation Current: 0.63A; Self Resonant Frequency: 7MHz; Category: Unshielded Power Inductors; Match Code: WE-PD2; ComponentLink1Description: Website Link; ComponentLink1URL: https://www.we-online.com/redexpert/article/744774212?ad; ComponentLink2Description: Datasheet Link; ComponentLink2URL: https://www.we-online.com/redexpert/spec/744774212?ad; Mount: Surface Mount; Operating Temperature Max: 125°C; Operating Temperature Min: -40°C; Packaging: Tape and Reel; Length: 5.8mm; Width: 5.2mm; Height: 4.5mm; DC Resistance Max: 0.93Ω; Inductance: 120µH; Rated Current: 0.49A
footprint WE-PD2_5848
simulation model 5848_744774212_120u
pins: 1, 2

## 744774215
designator L?, comment 150µH, 0.46A  (value not drawn)
WE-PD2 SMT Power Inductor, size 5848, 150µH, 0.46A, 1.1Ω; Manufacturer Part Number: 744774215; Manufacturer: Wurth Elektronik; Case/Size Code: 5848; DC Resistance: 0.72Ω; Saturation Current: 0.54A; Self Resonant Frequency: 6.5MHz; Category: Unshielded Power Inductors; Match Code: WE-PD2; ComponentLink1Description: Website Link; ComponentLink1URL: https://www.we-online.com/redexpert/article/744774215?ad; ComponentLink2Description: Datasheet Link; ComponentLink2URL: https://www.we-online.com/redexpert/spec/744774215?ad; Mount: Surface Mount; Operating Temperature Max: 125°C; Operating Temperature Min: -40°C; Packaging: Tape and Reel; Length: 5.8mm; Width: 5.2mm; Height: 4.5mm; DC Resistance Max: 1.1Ω; Inductance: 150µH; Rated Current: 0.46A
footprint WE-PD2_5848
simulation model 5848_744774215_150u
pins: 1, 2

## 744774218
designator L?, comment 180µH, 0.42A  (value not drawn)
WE-PD2 SMT Power Inductor, size 5848, 180µH, 0.42A, 1.38Ω; Manufacturer Part Number: 744774218; Manufacturer: Wurth Elektronik; Case/Size Code: 5848; DC Resistance: 0.85Ω; Saturation Current: 0.5A; Self Resonant Frequency: 5.8MHz; Category: Unshielded Power Inductors; Match Code: WE-PD2; ComponentLink1Description: Website Link; ComponentLink1URL: https://www.we-online.com/redexpert/article/744774218?ad; ComponentLink2Description: Datasheet Link; ComponentLink2URL: https://www.we-online.com/redexpert/spec/744774218?ad; Mount: Surface Mount; Operating Temperature Max: 125°C; Operating Temperature Min: -40°C; Packaging: Tape and Reel; Length: 5.8mm; Width: 5.2mm; Height: 4.5mm; DC Resistance Max: 1.38Ω; Inductance: 180µH; Rated Current: 0.42A
footprint WE-PD2_5848
simulation model 5848_744774218_180u
pins: 1, 2

## 744774222
designator L?, comment 220µH, 0.42A  (value not drawn)
WE-PD2 SMT Power Inductor, size 5848, 220µH, 0.42A, 1.57Ω; Manufacturer Part Number: 744774222; Manufacturer: Wurth Elektronik; Case/Size Code: 5848; DC Resistance: 0.945Ω; Saturation Current: 0.47A; Self Resonant Frequency: 5MHz; Category: Unshielded Power Inductors; Match Code: WE-PD2; ComponentLink1Description: Website Link; ComponentLink1URL: https://www.we-online.com/redexpert/article/744774222?ad; ComponentLink2Description: Datasheet Link; ComponentLink2URL: https://www.we-online.com/redexpert/spec/744774222?ad; Mount: Surface Mount; Operating Temperature Max: 125°C; Operating Temperature Min: -40°C; Packaging: Tape and Reel; Length: 5.8mm; Width: 5.2mm; Height: 4.5mm; DC Resistance Max: 1.57Ω; Inductance: 220µH; Rated Current: 0.42A
footprint WE-PD2_5848
simulation model 5848_744774222_220u
pins: 1, 2

## 744775112
designator L?, comment 12µH, 2.18A  (value not drawn)
WE-PD2 SMT Power Inductor, size 7850, 12µH, 2.18A, 0.08Ω; Manufacturer Part Number: 744775112; Manufacturer: Wurth Elektronik; Case/Size Code: 7850; DC Resistance: 0.042Ω; Saturation Current: 2.2A; Self Resonant Frequency: 26MHz; Category: Unshielded Power Inductors; Match Code: WE-PD2; ComponentLink1Description: Website Link; ComponentLink1URL: https://www.we-online.com/redexpert/article/744775112?ad; ComponentLink2Description: Datasheet Link; ComponentLink2URL: https://www.we-online.com/redexpert/spec/744775112?ad; Mount: Surface Mount; Operating Temperature Max: 125°C; Operating Temperature Min: -40°C; Packaging: Tape and Reel; Length: 7.8mm; Width: 7mm; Height: 4.95mm; DC Resistance Max: 0.08Ω; Inductance: 12µH; Rated Current: 2.18A
footprint WE-PD2_7850
simulation model 7850_744775112_12u
pins: 1, 2

## 744775115
designator L?, comment 15µH, 1.93A  (value not drawn)
WE-PD2 SMT Power Inductor, size 7850, 15µH, 1.93A, 0.09Ω; Manufacturer Part Number: 744775115; Manufacturer: Wurth Elektronik; Case/Size Code: 7850; DC Resistance: 0.044Ω; Saturation Current: 2.23A; Self Resonant Frequency: 20MHz; Category: Unshielded Power Inductors; Match Code: WE-PD2; ComponentLink1Description: Website Link; ComponentLink1URL: https://www.we-online.com/redexpert/article/744775115?ad; ComponentLink2Description: Datasheet Link; ComponentLink2URL: https://www.we-online.com/redexpert/spec/744775115?ad; Mount: Surface Mount; Operating Temperature Max: 125°C; Operating Temperature Min: -40°C; Packaging: Tape and Reel; Length: 7.8mm; Width: 7mm; Height: 4.95mm; DC Resistance Max: 0.09Ω; Inductance: 15µH; Rated Current: 1.93A
footprint WE-PD2_7850
simulation model 7850_744775115_15u
pins: 1, 2

## 744775118
designator L?, comment 18µH, 1.89A  (value not drawn)
WE-PD2 SMT Power Inductor, size 7850, 18µH, 1.89A, 0.1Ω; Manufacturer Part Number: 744775118; Manufacturer: Wurth Elektronik; Case/Size Code: 7850; DC Resistance: 0.053Ω; Saturation Current: 2.14A; Self Resonant Frequency: 19MHz; Category: Unshielded Power Inductors; Match Code: WE-PD2; ComponentLink1Description: Website Link; ComponentLink1URL: https://www.we-online.com/redexpert/article/744775118?ad; ComponentLink2Description: Datasheet Link; ComponentLink2URL: https://www.we-online.com/redexpert/spec/744775118?ad; Mount: Surface Mount; Operating Temperature Max: 125°C; Operating Temperature Min: -40°C; Packaging: Tape and Reel; Length: 7.8mm; Width: 7mm; Height: 4.95mm; DC Resistance Max: 0.1Ω; Inductance: 18µH; Rated Current: 1.89A
footprint WE-PD2_7850
simulation model 7850_744775118_18u
pins: 1, 2

## 744775122
designator L?, comment 22µH, 1.76A  (value not drawn)
WE-PD2 SMT Power Inductor, size 7850, 22µH, 1.76A, 0.11Ω; Manufacturer Part Number: 744775122; Manufacturer: Wurth Elektronik; Case/Size Code: 7850; DC Resistance: 0.065Ω; Saturation Current: 1.81A; Self Resonant Frequency: 17.5MHz; Category: Unshielded Power Inductors; Match Code: WE-PD2; ComponentLink1Description: Website Link; ComponentLink1URL: https://www.we-online.com/redexpert/article/744775122?ad; ComponentLink2Description: Datasheet Link; ComponentLink2URL: https://www.we-online.com/redexpert/spec/744775122?ad; Mount: Surface Mount; Operating Temperature Max: 125°C; Operating Temperature Min: -40°C; Packaging: Tape and Reel; Length: 7.8mm; Width: 7mm; Height: 4.95mm; DC Resistance Max: 0.11Ω; Inductance: 22µH; Rated Current: 1.76A
footprint WE-PD2_7850
simulation model 7850_744775122_22u
pins: 1, 2

## 744775127
designator L?, comment 27µH, 1.48A  (value not drawn)
WE-PD2 SMT Power Inductor, size 7850, 27µH, 1.48A, 0.12Ω; Manufacturer Part Number: 744775127; Manufacturer: Wurth Elektronik; Case/Size Code: 7850; DC Resistance: 0.074Ω; Saturation Current: 1.62A; Self Resonant Frequency: 15.5MHz; Category: Unshielded Power Inductors; Match Code: WE-PD2; ComponentLink1Description: Website Link; ComponentLink1URL: https://www.we-online.com/redexpert/article/744775127?ad; ComponentLink2Description: Datasheet Link; ComponentLink2URL: https://www.we-online.com/redexpert/spec/744775127?ad; Mount: Surface Mount; Operating Temperature Max: 125°C; Operating Temperature Min: -40°C; Packaging: Tape and Reel; Length: 7.8mm; Width: 7mm; Height: 4.95mm; DC Resistance Max: 0.12Ω; Inductance: 27µH; Rated Current: 1.48A
footprint WE-PD2_7850
simulation model 7850_744775127_27u
pins: 1, 2